# Altium schematic symbol library RB751V40T1G.SchLib: 1 symbol
Pins are listed as number, name and electrical type; pins without a type are passive.

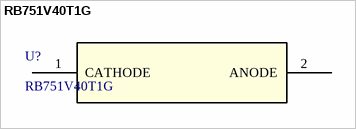
[diagram p0: symbol RB751V40T1G]

## RB751V40T1G
designator U?
Description; Manufacturer_Name: onsemi; Copyright: Copyright (C) 2025 Ultra Librarian. All rights reserved.; Manufacturer_Part_Number: RB751V40T1G; RefDes: RefDes; Type: Type
footprint SOD-323_1P8X1P35_ONS
pins: 1 CATHODE, 2 ANODE